# EAGLE library part 05_PINHEAD_1X8 (library ftdi_ft231xq-r)
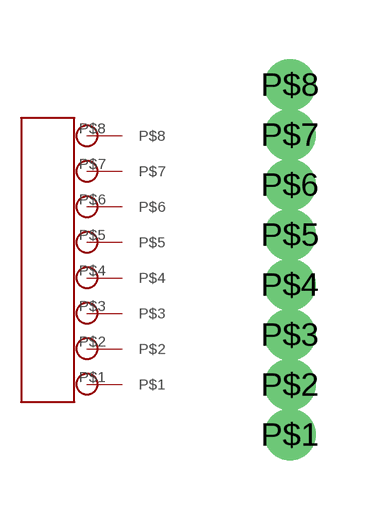
[diagram p2: symbol with the pads of 05_PINHEAD_1X8_PACKAGE; footprint 05_PINHEAD_1X8_PACKAGE]

Designator prefix -

## 05_PINHEAD_1X8  [05_PINHEAD_1X8_PACKAGE]
P$1  P$1
P$2  P$2
P$3  P$3
P$4  P$4
P$5  P$5
P$6  P$6
P$7  P$7
P$8  P$8

## Footprint 05_PINHEAD_1X8_PACKAGE (pad centres in mm)
drill 0.8 pad 1.143: P$1 0,0; P$2 0,1.27; P$3 0,2.54; P$4 0,3.81; P$5 0,5.08; P$6 0,6.35; P$7 0,7.62; P$8 0,8.89